# Altium schematic symbol library SRP5050FA-220M1.SchLib: 1 symbol
Pins are listed as number, name and electrical type; pins without a type are passive.

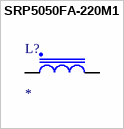
[diagram p0: symbol SRP5050FA-220M1]

## SRP5050FA-220M1
designator L?
footprint SRP5050FA220M1
pins: 1, 2